# Altium footprint library ECS.PcbLib: 3 footprints
Each footprint in its own frame and in the unit in brackets; x right, y up, seen from the top. Pads: shape width x height; smd on the part's side, far side on the other; paste and mask are expansions set on the pad; w line width, h text height; cw(c..) or ccw(c..) is an arc to the next point about the centre after c.
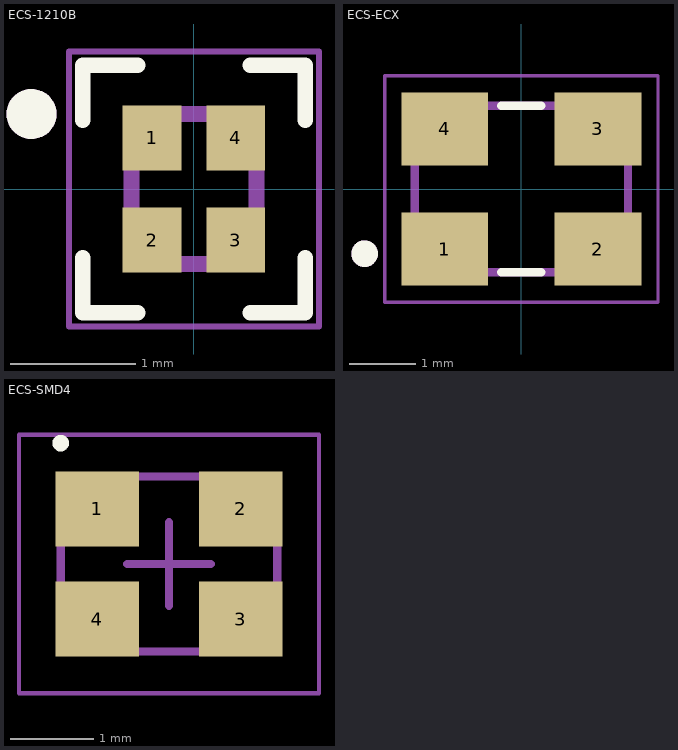
[diagram p0: the footprints below, top view; thin cyan lines are the x and y axes]

## ECS-1210B [mm]
pads (4):
  rect 0.47x0.52 smd: 1(-0.335,0.41) 2(-0.335,-0.41) 3(0.335,-0.41) 4(0.335,0.41)
Top Overlay:
  circle w0.2: c-1.3,0.6 r0.1
  lines w0.127: -0.89,-0.55 -0.89,-0.99 -0.45,-0.99 ; -0.89,0.55 -0.89,0.99 -0.45,0.99 ; 0.45,-0.99 0.89,-0.99 0.89,-0.55 ; 0.45,0.99 0.89,0.99 0.89,0.55
Mechanical 13:
  circle w0.2: c-1.3,0.6 r0.1
  lines w0.127: -0.5,-0.6 -0.5,0.6 0.5,0.6 0.5,-0.6 -0.5,-0.6
Mechanical 15:
  lines w0.05: -1,-1.1 -1,1.1 1,1.1 1,-1.1 -1,-1.1
3D body "ECS-.327-12.5-1210B-N-TR--3DModel-STEP-418109.STEP": height 0.35, standoff 0, extent -0.5,-0.6 0.5,0.6

## ECS-ECX [mm]
pads (4):
  rect 1.3x1.1 smd: 1(-1.15,-0.9) 2(1.15,-0.9) 3(1.15,0.9) 4(-1.15,0.9)
Top Overlay:
  circle w0.2: c-2.35,-0.97 r0.1
  lines w0.127: -0.3,-1.25 0.3,-1.25 ; -0.3,1.25 0.3,1.25
Mechanical 13:
  circle w0.2: c-2.35,-0.97 r0.1
  lines w0.127: -1.6,-1.25 -1.6,1.25 1.6,1.25 1.6,-1.25 -1.6,-1.25
Mechanical 15:
  lines w0.05: -2.05,-1.7 -2.05,1.7 2.05,1.7 2.05,-1.7 -2.05,-1.7
3D body "ECS-160-12-33Q-JES-TR.STEP": height 0.8, standoff 0, extent -1.6,-1.25 1.6,1.25

## ECS-SMD4 [mm] "OSC TCXO 3.3V HCMOS SMD"
height 1
pads (4):
  rect 1x0.9 smd: 1(-21.662,-16.138) 2(-19.937,-16.138) 3(-19.937,-17.463) 4(-21.662,-17.463)
Top Overlay:
  circle w0.1: c-22.1,-15.35 r0.05
Mechanical 13:
  lines w0.1: -22.1,-17.85 -19.5,-17.85 -19.5,-15.75 -22.1,-15.75 -22.1,-17.85
Mechanical 15:
  lines w0.05: -22.6,-18.35 -19,-18.35 -19,-15.25 -22.6,-15.25 -22.6,-18.35
  lines w0.1: -21.3,-16.8 -20.3,-16.8 ; -20.8,-17.3 -20.8,-16.3
3D body "ECS-TXO-2520-33.step": height 1, standoff 0, extent -22.1,-17.85 -19.487,-15.75